# Altium schematic symbol library SMBJ5370B-TP.SchLib: 1 symbol
Pins are listed as number, name and electrical type; pins without a type are passive.

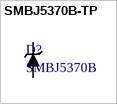
[diagram p0: symbol SMBJ5370B-TP]

## SMBJ5370B-TP
designator D?, comment SMBJ5370B
56V zener
pins: 1 (power), 2 (power)